# Altium footprint library MICRO-USB-SMD_U254-051T-4BH23-S2S.PcbLib: 1 footprints
Each footprint in its own frame and in the unit in brackets; x right, y up, seen from the top. Pads: shape width x height; smd on the part's side, far side on the other; paste and mask are expansions set on the pad; w line width, h text height; cw(c..) or ccw(c..) is an arc to the next point about the centre after c.
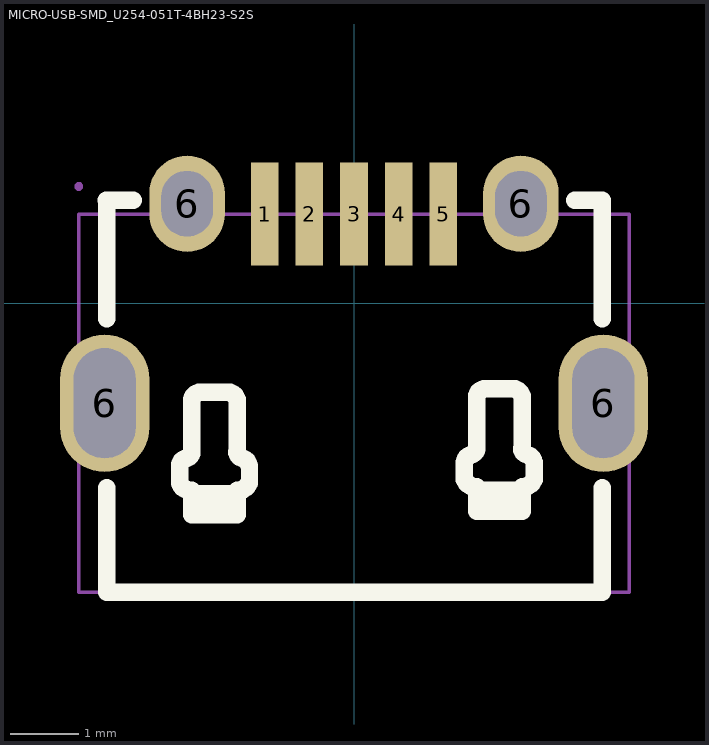
[diagram p0: the footprint, top view; thin cyan lines are the x and y axes]

## MICRO-USB-SMD_U254-051T-4BH23-S2S [mm]
pads (9):
  rect 0.4x1.5 smd paste-100 mask+0.051: 1(-1.3,1.3) 2(-0.65,1.3) 3(0,1.3) 4(0.65,1.3) 5(1.3,1.3)
  oval 1.3x2 hole 0.9 slot 1.6 at 90 deg: 6(-3.625,-1.45) 6(3.625,-1.45)
  oval 1.1x1.4 hole 0.75 slot 0.95 at 90 deg: 6(-2.425,1.45) 6(2.425,1.45)
Top Overlay:
  lines w0.254: -3.6,1.5 -3.206,1.5 ; -3.595,-2.681 -3.595,-2.75 -3.595,-4.2 3.605,-4.2 3.605,-2.751 3.605,-2.681 ; -3.595,-0.219 -3.595,1.5 ; -2.535,-2.612 -2.535,-2.358 ; -2.532,-2.352 cw(c-2.432,-2.352) -2.432,-2.252 ; -2.53,-2.601 ccw(c-2.43,-2.601) -2.43,-2.701 ; -2.442,-2.251 ccw(c-2.455,-2.152) -2.355,-2.152 ; -2.433,-2.713 -2.357,-2.713 -2.357,-2.764 ; -2.357,-2.154 -2.357,-1.392 ; -2.355,-1.401 cw(c-2.255,-1.401) -2.255,-1.301 ; -2.255,-1.291 -1.798,-1.291 ; -1.805,-1.301 cw(c-1.805,-1.401) -1.705,-1.401 ; -1.705,-2.152 ccw(c-1.605,-2.152) -1.617,-2.251 ; -1.697,-2.154 -1.697,-1.392 ; -1.631,-2.252 cw(c-1.631,-2.352) -1.531,-2.352 ; -1.629,-2.7 ccw(c-1.629,-2.6) -1.529,-2.6 ; -1.62,-2.713 -1.697,-2.713 -1.697,-2.764 ; -1.519,-2.612 -1.519,-2.358 ; 1.605,-2.561 1.605,-2.307 ; 1.608,-2.301 cw(c1.709,-2.301) 1.708,-2.201 ; 1.61,-2.55 ccw(c1.711,-2.55) 1.71,-2.65 ; 1.698,-2.2 ccw(c1.686,-2.101) 1.785,-2.101 ; 1.707,-2.662 1.783,-2.662 1.783,-2.713 ; 1.783,-2.104 1.783,-1.342 ; 1.785,-1.35 cw(c1.886,-1.35) 1.885,-1.25 ; 1.885,-1.24 2.342,-1.24 ; 2.335,-1.25 cw(c2.335,-1.35) 2.435,-1.35 ; 2.435,-2.101 ccw(c2.536,-2.101) 2.523,-2.201 ; 2.444,-2.104 2.444,-1.342 ; 2.509,-2.201 cw(c2.509,-2.301) 2.609,-2.301 ; 2.511,-2.649 ccw(c2.511,-2.549) 2.611,-2.549 ; 2.52,-2.662 2.444,-2.662 2.444,-2.713 ; 2.621,-2.561 2.621,-2.307 ; 3.206,1.5 3.605,1.5 3.605,-0.219 ; -2.357,-2.84 -2.357,-3.069 -1.697,-3.069 -1.697,-2.84 ; -2.357,-2.84 -2.357,-2.764 ; -2.357,-2.84 -1.697,-2.84 ; -2.357,-2.764 -1.697,-2.764 ; -1.697,-2.84 -1.697,-2.764 ; 1.783,-2.789 1.783,-3.018 2.444,-3.018 2.444,-2.789 ; 1.783,-2.789 1.783,-2.713 ; 1.783,-2.789 2.444,-2.789 ; 1.783,-2.713 2.444,-2.713 ; 2.444,-2.789 2.444,-2.713
Top Paste:
  region: -1.1,2.05 -1.1,0.55 -1.5,0.55 -1.5,2.05
  region: -0.85,0.55 -0.85,2.05 -0.45,2.05 -0.45,0.55
  region: -0.2,0.55 -0.2,2.05 0.2,2.05 0.2,0.55
  region: 0.45,0.55 0.45,2.05 0.85,2.05 0.85,0.55
  region: 1.1,0.55 1.1,2.05 1.5,2.05 1.5,0.55
  region: 2.975,1.3 2.975,1.191 2.891,0.988 2.737,0.834 2.534,0.75 2.316,0.75 2.113,0.834 1.959,0.988 1.875,1.191 1.875,1.3 1.875,1.6 1.875,1.709 1.959,1.911 2.113,2.066 2.316,2.15 2.534,2.15 2.737,2.066 2.891,1.911 2.975,1.709 2.975,1.6
  region: 4.275,-1.8 4.275,-1.886 4.23,-2.051 4.145,-2.199 4.024,-2.32 3.875,-2.406 3.71,-2.45 3.539,-2.45 3.374,-2.406 3.225,-2.32 3.104,-2.199 3.019,-2.051 2.975,-1.886 2.975,-1.8 2.975,-1.1 2.975,-1.014 3.019,-0.849 3.104,-0.701 3.225,-0.58 3.374,-0.494 3.539,-0.45 3.71,-0.45 3.875,-0.494 4.024,-0.58 4.145,-0.701 4.23,-0.849 4.275,-1.014 4.275,-1.1
  region: -1.875,1.3 -1.875,1.191 -1.959,0.988 -2.113,0.834 -2.316,0.75 -2.534,0.75 -2.736,0.834 -2.891,0.988 -2.975,1.191 -2.975,1.3 -2.975,1.6 -2.975,1.709 -2.891,1.911 -2.736,2.066 -2.534,2.15 -2.316,2.15 -2.113,2.066 -1.959,1.911 -1.875,1.709 -1.875,1.6
  region: -2.975,-1.8 -2.975,-1.886 -3.019,-2.051 -3.104,-2.199 -3.225,-2.32 -3.374,-2.406 -3.539,-2.45 -3.71,-2.45 -3.875,-2.406 -4.024,-2.32 -4.145,-2.199 -4.23,-2.051 -4.275,-1.886 -4.275,-1.8 -4.275,-1.1 -4.275,-1.014 -4.23,-0.849 -4.145,-0.701 -4.024,-0.58 -3.875,-0.494 -3.71,-0.45 -3.539,-0.45 -3.374,-0.494 -3.225,-0.58 -3.104,-0.701 -3.019,-0.849 -2.975,-1.014 -2.975,-1.1
Mechanical 15:
  region: -2.726,1.551 -2.726,1.283 -2.724,1.281 -2.126,1.281 -2.126,1.551
  region: 2.124,1.551 2.124,1.283 2.126,1.281 2.724,1.281 2.724,1.551
  region: -1.4,1.2 -1.4,1.7 -1.2,1.7 -1.2,1.2
  region: -0.55,1.7 -0.55,1.2 -0.75,1.2 -0.75,1.7
  region: 0.1,1.7 0.1,1.2 -0.1,1.2 -0.1,1.7
  region: 0.75,1.7 0.75,1.2 0.55,1.2 0.55,1.7
  region: 1.4,1.7 1.4,1.2 1.2,1.2 1.2,1.7
  region: -3.985,-1.8 -3.985,-1.1 -3.265,-1.1 -3.265,-1.8
  region: 3.265,-1.8 3.265,-1.1 3.985,-1.1 3.985,-1.8
  region: -2.726,1.35 -2.726,1.55 -2.126,1.55 -2.126,1.35
  region: 2.124,1.351 2.124,1.551 2.724,1.551 2.724,1.351
  region: -3.94,1.7 -3.94,1.725 -3.975,1.76 -4.025,1.76 -4.06,1.725 -4.06,1.7 -4.06,1.675 -4.025,1.64 -3.975,1.64 -3.94,1.675 -3.94,1.7
  lines w0.051: -4,-4.2 -4,1.3 4,1.3 4,-4.2 -4,-4.2